# EAGLE library part MIC2230-XXYML (library pandaLight)
dual output, fixed voltage, high-efficiency synchronous step-down DC/DC converter
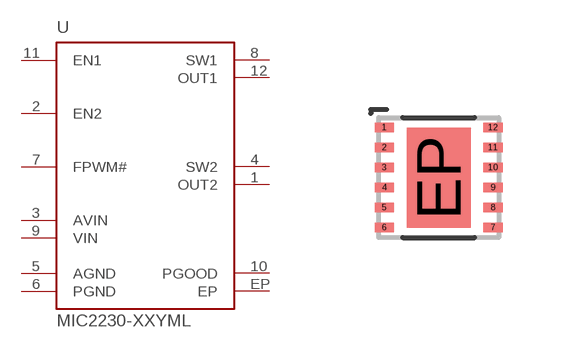
[diagram p16: symbol with the pads of MLF-12; footprint MLF-12]

Designator prefix U

## MIC2230-XXYML  [MLF-12]
1  OUT2  in
2  EN2  in
3  AVIN  pwr
4  SW2  sup
5  AGND  pwr
6  PGND  pwr
7  FPWM#  in
8  SW1  sup
9  VIN  pwr
10  PGOOD  out
11  EN1  in
12  OUT1  in
EP  EP  nc

## Footprint MLF-12 (pad centres in mm)
smd 0.48 x 0.23: 1 -1.36,1.25; 2 -1.36,0.75; 3 -1.36,0.25; 4 -1.36,-0.25; 5 -1.36,-0.75; 6 -1.36,-1.25; 7 1.36,-1.25; 8 1.36,-0.75; 9 1.36,-0.25; 10 1.36,0.25; 11 1.36,0.75; 12 1.36,1.25
smd 1.6 x 2.5: EP 0,0